# EAGLE library part TC4427VOA (library TC4427VOA)
IC, MOSFET DRIVER, LOW SIDE Check prices <https://pricing.snapeda.com/parts/TC4427VOA/Microchip/view-part?ref=eda>
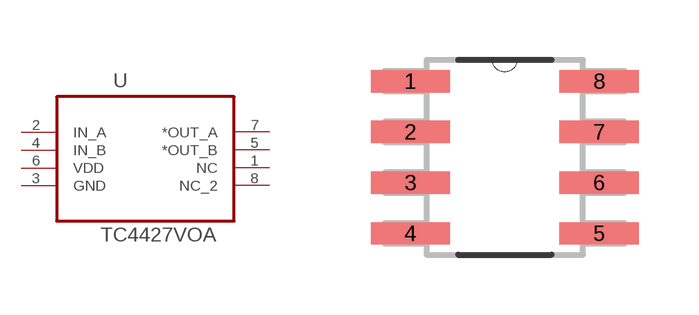
[diagram p0: symbol with the pads of SOIC127P600X175-8N; footprint SOIC127P600X175-8N]

Designator prefix U

## TC4427VOA (Availability: Warning; Description: Low-Side Gate Driver IC Non-Inverting 8-SOIC; MF: Microchip; MP: TC4427VOA; Package: SO-8 Microchip; Price: None; Purchase-URL: https://pricing.snapeda.com/search/part/TC4427VOA/?ref=eda)  [SOIC127P600X175-8N]
1  NC  nc
2  IN_A  in
3  GND  pas
4  IN_B  in
5  *OUT_B  out
6  VDD  pwr
7  *OUT_A  out
8  NC_2  nc

## Footprint SOIC127P600X175-8N (pad centres in mm)
smd 1.981 x 0.559: 1 -2.362,1.905; 2 -2.362,0.635; 3 -2.362,-0.635; 4 -2.362,-1.905; 5 2.362,-1.905; 6 2.362,-0.635; 7 2.362,0.635; 8 2.362,1.905